# Altium integrated library Cypress PLD Delta39K.IntLib: 82 symbols (part 13 of 21)
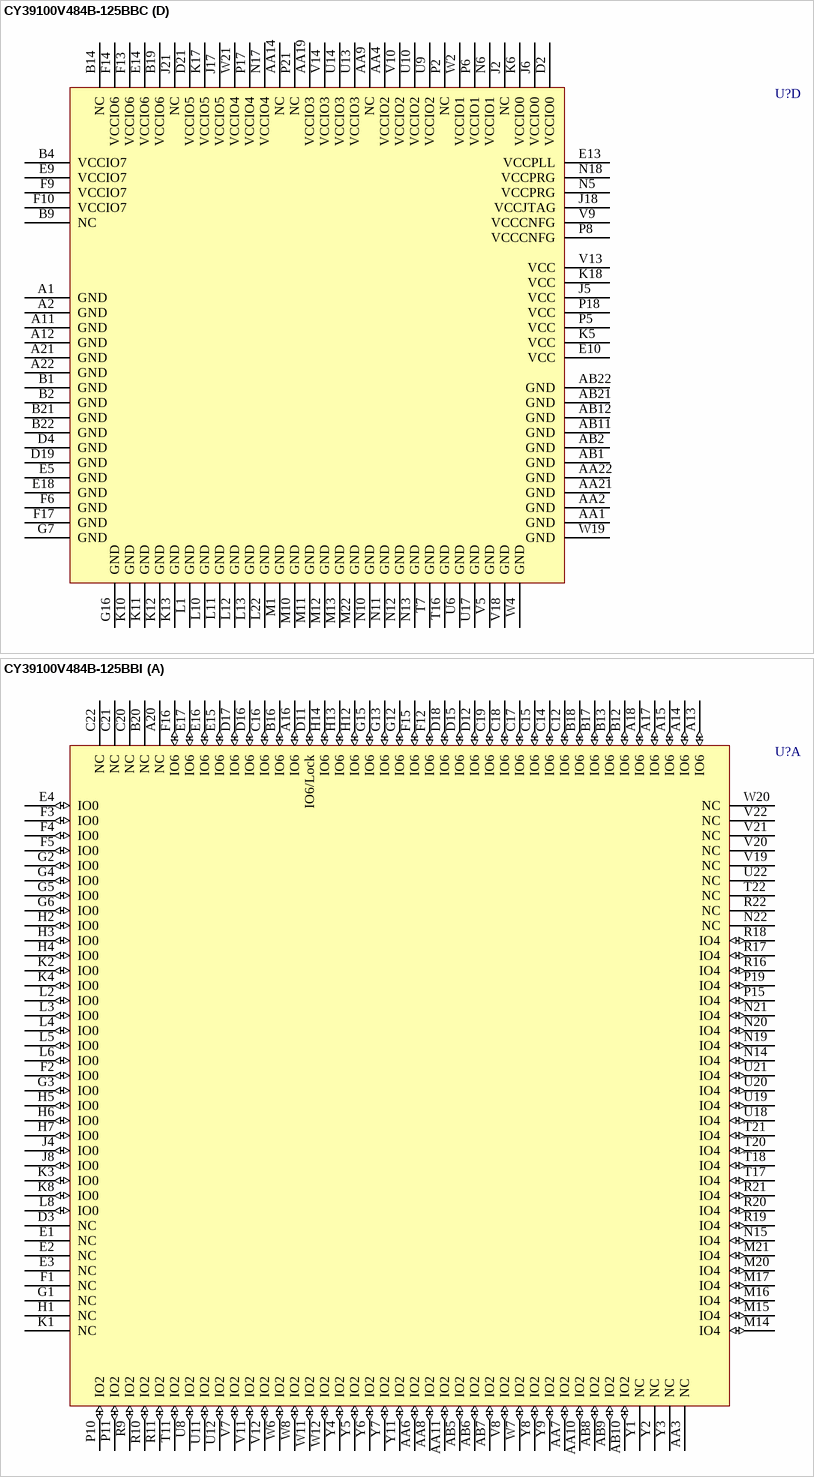
[diagram p90: symbols CY39100V484B-125BBC to CY39100V484B-125BBI]

## CY39100V484B-125BBC
designator U?
Delta39K ISR CPLD, 3.3V/2.5V, 100K Gates, 125 MHz, 484-Ball FBGA, Commercial Grade; Published: 6-Oct-2005; LatestRevisionDate: 13-Apr-2006; LatestRevisionNote: IPC-7351 Footprint Added.; DatasheetVersion: revI, Mar-2005; PackageVersion: Mar-2005; PackageReference: BB484; Publisher: Altium Limited; PackageDescription: 484-Ball Fine Pitch Ball Grid Array 1 mm Pitch; Code_IPC: BGA100P22X22-484; ComponentLink1Description: Manufacturer Link; ComponentLink1URL: http://www.cypress.com/; ComponentLink2Description: Datasheet; ComponentLink2URL: http://www.cypress.com/portal/server.pt/gateway/PTARGS_0_601270_1522_209_0_43/http%3B/sjapp20.mis.cypress.com%3B7001/publishedcontent/publish/design_resources/datasheets/contents/cy39030v_5.pdf
footprint BB484 (BGA, 484-Leads, Body 23x23mm, Pitch 1mm)
3D model CY39100V484-BB484 (484-Ball Fine Pitch Ball Grid Array 1 mm Pitch)
part A pins: A13 IO6 (io) "IO for Bank 6", A14 IO6 (io) "IO for Bank 6", A15 IO6 (io) "IO for Bank 6", A16 IO6 (io) "IO for Bank 6", A17 IO6 (io) "IO for Bank 6", A18 IO6 (io) "IO for Bank 6", A20 NC "No Connection", AA3 NC "No Connection", AA6 IO2 (io) "IO for Bank 2", AA7 IO2 (io) "IO for Bank 2", AA8 IO2 (io) "IO for Bank 2", AA10 IO2 (io) "IO for Bank 2", AA11 IO2 (io) "IO for Bank 2", AB5 IO2 (io) "IO for Bank 2", AB6 IO2 (io) "IO for Bank 2", AB7 IO2 (io) "IO for Bank 2", AB8 IO2 (io) "IO for Bank 2", AB9 IO2 (io) "IO for Bank 2", AB10 IO2 (io) "IO for Bank 2", B12 IO6 (io) "IO for Bank 6", B13 IO6 (io) "IO for Bank 6", B16 IO6 (io) "IO for Bank 6", B17 IO6 (io) "IO for Bank 6", B18 IO6 (io) "IO for Bank 6", B20 NC "No Connection", C12 IO6 (io) "IO for Bank 6", C14 IO6 (io) "IO for Bank 6", C15 IO6 (io) "IO for Bank 6", C16 IO6 (io) "IO for Bank 6", C17 IO6 (io) "IO for Bank 6", C18 IO6 (io) "IO for Bank 6", C19 IO6 (io) "IO for Bank 6", C20 NC "No Connection", C21 NC "No Connection", C22 NC "No Connection", D3 NC "No Connection", D11 IO6/Lock (io) "IO in Bank 6 or PLL lock output signal", D12 IO6 (io) "IO for Bank 6", D15 IO6 (io) "IO for Bank 6", D16 IO6 (io) "IO for Bank 6", D17 IO6 (io) "IO for Bank 6", D18 IO6 (io) "IO for Bank 6", E1 NC "No Connection", E2 NC "No Connection", E3 NC "No Connection", E4 IO0 (io) "IO for Bank 0", E15 IO6 (io) "IO for Bank 6", E16 IO6 (io) "IO for Bank 6", E17 IO6 (io) "IO for Bank 6", F1 NC "No Connection", F2 IO0 (io) "IO for Bank 0", F3 IO0 (io) "IO for Bank 0", F4 IO0 (io) "IO for Bank 0", F5 IO0 (io) "IO for Bank 0", F12 IO6 (io) "IO for Bank 6", F15 IO6 (io) "IO for Bank 6", F16 IO6 (io) "IO for Bank 6", G1 NC "No Connection", G2 IO0 (io) "IO for Bank 0", G3 IO0 (io) "IO for Bank 0", G4 IO0 (io) "IO for Bank 0", G5 IO0 (io) "IO for Bank 0", G6 IO0 (io) "IO for Bank 0", G12 IO6 (io) "IO for Bank 6", G13 IO6 (io) "IO for Bank 6", G15 IO6 (io) "IO for Bank 6", H1 NC "No Connection", H2 IO0 (io) "IO for Bank 0", H3 IO0 (io) "IO for Bank 0", H4 IO0 (io) "IO for Bank 0", H5 IO0 (io) "IO for Bank 0", H6 IO0 (io) "IO for Bank 0", H7 IO0 (io) "IO for Bank 0", H12 IO6 (io) "IO for Bank 6", H13 IO6 (io) "IO for Bank 6", H14 IO6 (io) "IO for Bank 6", J4 IO0 (io) "IO for Bank 0", J8 IO0 (io) "IO for Bank 0", K1 NC "No Connection", K2 IO0 (io) "IO for Bank 0", K3 IO0 (io) "IO for Bank 0", K4 IO0 (io) "IO for Bank 0", K8 IO0 (io) "IO for Bank 0", L2 IO0 (io) "IO for Bank 0", L3 IO0 (io) "IO for Bank 0", L4 IO0 (io) "IO for Bank 0", L5 IO0 (io) "IO for Bank 0", L6 IO0 (io) "IO for Bank 0", L8 IO0 (io) "IO for Bank 0", M14 IO4 (io) "IO for Bank 4", M15 IO4 (io) "IO for Bank 4", M16 IO4 (io) "IO for Bank 4", M17 IO4 (io) "IO for Bank 4", M20 IO4 (io) "IO for Bank 4", M21 IO4 (io) "IO for Bank 4", N14 IO4 (io) "IO for Bank 4", N15 IO4 (io) "IO for Bank 4", N19 IO4 (io) "IO for Bank 4", N20 IO4 (io) "IO for Bank 4", N21 IO4 (io) "IO for Bank 4", N22 NC "No Connection", P10 IO2 (io) "IO for Bank 2", P11 IO2 (io) "IO for Bank 2", P15 IO4 (io) "IO for Bank 4", P19 IO4 (io) "IO for Bank 4", R9 IO2 (io) "IO for Bank 2", R10 IO2 (io) "IO for Bank 2", R11 IO2 (io) "IO for Bank 2", R16 IO4 (io) "IO for Bank 4", R17 IO4 (io) "IO for Bank 4", R18 IO4 (io) "IO for Bank 4", R19 IO4 (io) "IO for Bank 4", R20 IO4 (io) "IO for Bank 4", R21 IO4 (io) "IO for Bank 4", R22 NC "No Connection", T11 IO2 (io) "IO for Bank 2", T17 IO4 (io) "IO for Bank 4", T18 IO4 (io) "IO for Bank 4", T20 IO4 (io) "IO for Bank 4", T21 IO4 (io) "IO for Bank 4", T22 NC "No Connection", U8 IO2 (io) "IO for Bank 2", U11 IO2 (io) "IO for Bank 2", U12 IO2 (io) "IO for Bank 2", U18 IO4 (io) "IO for Bank 4", U19 IO4 (io) "IO for Bank 4", U20 IO4 (io) "IO for Bank 4", U21 IO4 (io) "IO for Bank 4", U22 NC "No Connection", V7 IO2 (io) "IO for Bank 2", V8 IO2 (io) "IO for Bank 2", V11 IO2 (io) "IO for Bank 2", V12 IO2 (io) "IO for Bank 2", V19 NC "No Connection", V20 NC "No Connection", V21 NC "No Connection", V22 NC "No Connection", W6 IO2 (io) "IO for Bank 2", W7 IO2 (io) "IO for Bank 2", W8 IO2 (io) "IO for Bank 2", W11 IO2 (io) "IO for Bank 2", W12 IO2 (io) "IO for Bank 2", W20 NC "No Connection", Y1 NC "No Connection", Y2 NC "No Connection", Y3 NC "No Connection", Y4 IO2 (io) "IO for Bank 2", Y5 IO2 (io) "IO for Bank 2", Y6 IO2 (io) "IO for Bank 2", Y7 IO2 (io) "IO for Bank 2", Y8 IO2 (io) "IO for Bank 2", Y9 IO2 (io) "IO for Bank 2", Y11 IO2 (io) "IO for Bank 2"
part B pins: A5 IO7 (io) "IO for Bank 7", A6 IO7 (io) "IO for Bank 7", A7 IO7 (io) "IO for Bank 7", A8 IO7 (io) "IO for Bank 7", A9 IO7 (io) "IO for Bank 7", A10 IO7 (io) "IO for Bank 7", AA12 IO3 (io) "IO for Bank 3", AA13 IO3 (io) "IO for Bank 3", AA15 IO3 (io) "IO for Bank 3", AA16 IO3 (io) "IO for Bank 3", AA17 IO3 (io) "IO for Bank 3", AA20 NC "No Connection", AB13 IO3 (io) "IO for Bank 3", AB14 IO3 (io) "IO for Bank 3", AB15 IO3 (io) "IO for Bank 3", AB16 IO3 (io) "IO for Bank 3", AB17 IO3 (io) "IO for Bank 3", AB18 IO3 (io) "IO for Bank 3", AB20 NC "No Connection", B3 NC "No Connection", B5 IO7 (io) "IO for Bank 7", B6 IO7 (io) "IO for Bank 7", B7 IO7 (io) "IO for Bank 7", B10 IO7 (io) "IO for Bank 7", B11 IO7 (io) "IO for Bank 7", C1 NC "No Connection", C2 NC "No Connection", C3 NC "No Connection", C4 IO7 (io) "IO for Bank 7", C5 IO7 (io) "IO for Bank 7", C6 IO7 (io) "IO for Bank 7", C7 IO7 (io) "IO for Bank 7", C8 IO7 (io) "IO for Bank 7", C9 IO7 (io) "IO for Bank 7", C11 IO7 (io) "IO for Bank 7", D5 IO7 (io) "IO for Bank 7", D6 IO7 (io) "IO for Bank 7", D7 IO7 (io) "IO for Bank 7", D8 IO7 (io) "IO for Bank 7", D20 NC "No Connection", E6 IO7 (io) "IO for Bank 7", E7 IO7 (io) "IO for Bank 7", E8 IO7 (io) "IO for Bank 7", E20 NC "No Connection", E21 NC "No Connection", E22 NC "No Connection", F7 IO7 (io) "IO for Bank 7", F8 IO7 (io) "IO for Bank 7", F11 IO7 (io) "IO for Bank 7", F19 IO5 (io) "IO for Bank 5", F20 IO5 (io) "IO for Bank 5", F21 IO5 (io) "IO for Bank 5", F22 NC "No Connection", G8 IO7 (io) "IO for Bank 7", G10 IO7 (io) "IO for Bank 7", G11 IO7 (io) "IO for Bank 7", G18 IO5 (io) "IO for Bank 5", G19 IO5 (io) "IO for Bank 5", G20 IO5 (io) "IO for Bank 5", G21 IO5 (io) "IO for Bank 5", G22 NC "No Connection", H8 IO7 (io) "IO for Bank 7", H9 IO7 (io) "IO for Bank 7", H10 IO7 (io) "IO for Bank 7", H11 IO7 (io) "IO for Bank 7", H16 IO5 (io) "IO for Bank 5", H17 IO5 (io) "IO for Bank 5", H18 IO5 (io) "IO for Bank 5", H19 IO5 (io) "IO for Bank 5", H20 IO5 (io) "IO for Bank 5", H21 IO5 (io) "IO for Bank 5", H22 NC "No Connection", J9 IO7 (io) "IO for Bank 7", J14 IO5 (io) "IO for Bank 5", J15 IO5 (io) "IO for Bank 5", J19 IO5 (io) "IO for Bank 5", K15 IO5 (io) "IO for Bank 5", K19 IO5 (io) "IO for Bank 5", K20 IO5 (io) "IO for Bank 5", K21 IO5 (io) "IO for Bank 5", K22 NC "No Connection", L15 IO5 (io) "IO for Bank 5", L17 IO5 (io) "IO for Bank 5", L18 IO5 (io) "IO for Bank 5", L19 IO5 (io) "IO for Bank 5", L20 IO5 (io) "IO for Bank 5", L21 IO5 (io) "IO for Bank 5", M2 IO1 (io) "IO for Bank 1", M3 IO1 (io) "IO for Bank 1", M4 IO1 (io) "IO for Bank 1", M5 IO1 (io) "IO for Bank 1", M6 IO1 (io) "IO for Bank 1", M7 IO1 (io) "IO for Bank 1", M8 IO1 (io) "IO for Bank 1", M9 IO1 (io) "IO for Bank 1", M18 IO5 (io) "IO for Bank 5", M19 IO5 (io) "IO for Bank 5", N1 NC "No Connection", N2 IO1 (io) "IO for Bank 1", N3 IO1 (io) "IO for Bank 1", N4 IO1 (io) "IO for Bank 1", N8 IO1 (io) "IO for Bank 1", N9 IO1 (io) "IO for Bank 1", P4 IO1 (io) "IO for Bank 1", P12 IO3 (io) "IO for Bank 3", P13 IO3 (io) "IO for Bank 3", P14 IO3 (io) "IO for Bank 3", R1 NC "No Connection", R2 IO1 (io) "IO for Bank 1", R3 IO1 (io) "IO for Bank 1", R4 IO1 (io) "IO for Bank 1", R5 IO1 (io) "IO for Bank 1", R6 IO1 (io) "IO for Bank 1", R12 IO3 (io) "IO for Bank 3", R13 IO3 (io) "IO for Bank 3", R14 IO3 (io) "IO for Bank 3", R15 IO3 (io) "IO for Bank 3", T1 NC "No Connection", T2 IO1 (io) "IO for Bank 1", T3 IO1 (io) "IO for Bank 1", T5 IO1 (io) "IO for Bank 1", T6 IO1 (io) "IO for Bank 1", T12 IO3 (io) "IO for Bank 3", T15 IO3 (io) "IO for Bank 3", U1 NC "No Connection", U2 IO1 (io) "IO for Bank 1", U3 IO1 (io) "IO for Bank 1", U4 IO1 (io) "IO for Bank 1", U5 IO1 (io) "IO for Bank 1", U15 IO3 (io) "IO for Bank 3", U16 IO3 (io) "IO for Bank 3", V1 NC "No Connection", V2 NC "No Connection", V3 NC "No Connection", V4 NC "No Connection", V15 IO3 (io) "IO for Bank 3", V16 IO3 (io) "IO for Bank 3", V17 IO3 (io) "IO for Bank 3", W3 NC "No Connection", W15 IO3 (io) "IO for Bank 3", W16 IO3 (io) "IO for Bank 3", W17 IO3 (io) "IO for Bank 3", W18 IO3 (io) "IO for Bank 3", Y12 IO3 (io) "IO for Bank 3", Y14 IO3 (io) "IO for Bank 3", Y15 IO3 (io) "IO for Bank 3", Y16 IO3 (io) "IO for Bank 3", Y17 IO3 (io) "IO for Bank 3", Y18 IO3 (io) "IO for Bank 3", Y19 IO3 (io) "IO for Bank 3", Y20 NC "No Connection", Y21 NC "No Connection", Y22 NC "No Connection"
part C pins: A3 NC "No Connection", A4 NC "No Connection", A19 NC "No Connection", AA5 IO/VREF2 (io) "IO or Reference Voltage for Bank 2", AA18 IO/VREF3 (io) "IO or Reference Voltage for Bank 3", AB3 NC "No Connection", AB4 NC "No Connection", AB19 NC "No Connection", B8 IO/VREF7 (io) "IO or Reference Voltage for Bank 7", B15 IO/VREF6 (io) "IO or Reference Voltage for Bank 6", C10 IO/VREF7 (io) "IO or Reference Voltage for Bank 7", C13 IO/VREF6 (io) "IO or Reference Voltage for Bank 6", D1 NC "No Connection", D9 IO/VREF7 (io) "IO or Reference Voltage for Bank 7", D10 IO/VREF7 (io) "IO or Reference Voltage for Bank 7", D13 IO/VREF6 (io) "IO or Reference Voltage for Bank 6", D14 IO/VREF6 (io) "IO or Reference Voltage for Bank 6", D22 NC "No Connection", E11 IO/VREF7 (io) "IO or Reference Voltage for Bank 7", E12 IO/VREF6 (io) "IO or Reference Voltage for Bank 6", E19 TDO (out) "JTAG Test Data Out", F18 TDI (in) "JTAG Test Data In", G9 IO/VREF7 (io) "IO or Reference Voltage for Bank 7", G14 IO/VREF6 (io) "IO or Reference Voltage for Bank 6", G17 TCLK (in) "JTAG Test Clock", H15 TMS (in) "JTAG Test Mode Select", J1 NC "No Connection", J3 IO/VREF0 (io) "IO or Reference Voltage for Bank 0", J7 IO/VREF0 (io) "IO or Reference Voltage for Bank 0", J10 GCTL3 (in) "Global Control signal 3", J11 GCLK3 (in) "Global Clock signal 3", J12 GCTL2 (in) "Global Control signal 2", J13 GCLK2 (in) "Global Clock signal 2", J16 IO/VREF5 (io) "IO or Reference Voltage for Bank 5", J20 IO/VREF5 (io) "IO or Reference Voltage for Bank 5", J22 NC "No Connection", K7 IO/VREF0 (io) "IO or Reference Voltage for Bank 0", K9 GCTL0 (in) "Global Control signal 0", K14 GCTL1 (in) "Global Control signal 1", K16 IO/VREF5 (io) "IO or Reference Voltage for Bank 5", L7 IO/VREF0 (io) "IO or Reference Voltage for Bank 0", L9 GCLK0 (in) "Global Clock signal 0", L14 GCLK1 (in) "Global Clock signal 1", L16 IO/VREF5 (io) "IO or Reference Voltage for Bank 5", N7 IO/VREF1 (io) "IO or Reference Voltage for Bank 1", N16 IO/VREF4 (io) "IO or Reference Voltage for Bank 4", P1 NC "No Connection", P3 IO/VREF1 (io) "IO or Reference Voltage for Bank 1", P7 IO/VREF1 (io) "IO or Reference Voltage for Bank 1", P9 Config_Done (out) "Flag indicating that configuration is complete", P16 IO/VREF4 (io) "IO or Reference Voltage for Bank 4", P20 IO/VREF4 (io) "IO or Reference Voltage for Bank 4", P22 NC "No Connection", R7 Data (in) "Pin to receive configuration data from the external boot PROM", R8 Reconfig (in) "Pin to start configuration of Delta39K", T4 IO/VREF1 (io) "IO or Reference Voltage for Bank 1", T8 MSEL (in) "Mode Select Pin", T9 IO/VREF2 (io) "IO or Reference Voltage for Bank 2", T10 IO/VREF2 (io) "IO or Reference Voltage for Bank 2", T13 IO/VREF3 (io) "IO or Reference Voltage for Bank 3", T14 IO/VREF3 (io) "IO or Reference Voltage for Bank 3", T19 IO/VREF4 (io) "IO or Reference Voltage for Bank 4", U7 ~{CCE} (out) "Chip select for the external boot PROM (active low)", V6 CCLK (out) "Configuration Clock for serial interface with the external boot PROM", W1 NC "No Connection", W5 Reset (out) "Reset signal to interface with the external boot PROM", W9 IO/VREF2 (io) "IO or Reference Voltage for Bank 2", W10 IO/VREF2 (io) "IO or Reference Voltage for Bank 2", W13 IO/VREF3 (io) "IO or Reference Voltage for Bank 3", W14 IO/VREF3 (io) "IO or Reference Voltage for Bank 3", W22 NC "No Connection", Y10 IO/VREF2 (io) "IO or Reference Voltage for Bank 2", Y13 IO/VREF3 (io) "IO or Reference Voltage for Bank 3"
part D pins: A1 GND (power) "Ground", A2 GND (power) "Ground", A11 GND (power) "Ground", A12 GND (power) "Ground", A21 GND (power) "Ground", A22 GND (power) "Ground", AA1 GND (power) "Ground", AA2 GND (power) "Ground", AA4 VCCIO2 (power) "VCC for I/O bank 2", AA9 NC "No Connection", AA14 NC "No Connection", AA19 VCCIO3 (power) "VCC for I/O bank 3", AA21 GND (power) "Ground", AA22 GND (power) "Ground", AB1 GND (power) "Ground", AB2 GND (power) "Ground", AB11 GND (power) "Ground", AB12 GND (power) "Ground", AB21 GND (power) "Ground", AB22 GND (power) "Ground", B1 GND (power) "Ground", B2 GND (power) "Ground", B4 VCCIO7 (power) "VCC for I/O bank 7", B9 NC "No Connection", B14 NC "No Connection", B19 VCCIO6 (power) "VCC for I/O bank 6", B21 GND (power) "Ground", B22 GND (power) "Ground", D2 VCCIO0 (power) "VCC for I/O bank 0", D4 GND (power) "Ground", D19 GND (power) "Ground", D21 VCCIO5 (power) "VCC for I/O bank 5", E5 GND (power) "Ground", E9 VCCIO7 (power) "VCC for I/O bank 7", E10 VCC (power) "Operating Voltage", E13 VCCPLL (power) "VCC for PLL", E14 VCCIO6 (power) "VCC for I/O bank 6", E18 GND (power) "Ground", F6 GND (power) "Ground", F9 VCCIO7 (power) "VCC for I/O bank 7", F10 VCCIO7 (power) "VCC for I/O bank 7", F13 VCCIO6 (power) "VCC for I/O bank 6", F14 VCCIO6 (power) "VCC for I/O bank 6", F17 GND (power) "Ground", G7 GND (power) "Ground", G16 GND (power) "Ground", J2 NC "No Connection", J5 VCC (power) "Operating Voltage", J6 VCCIO0 (power) "VCC for I/O bank 0", J17 VCCIO5 (power) "VCC for I/O bank 5", J18 VCCJTAG (power) "VCC for JTAG pins", J21 NC "No Connection", K5 VCC (power) "Operating Voltage", K6 VCCIO0 (power) "VCC for I/O bank 0", K10 GND (power) "Ground", K11 GND (power) "Ground", K12 GND (power) "Ground", K13 GND (power) "Ground", K17 VCCIO5 (power) "VCC for I/O bank 5", K18 VCC (power) "Operating Voltage", L1 GND (power) "Ground", L10 GND (power) "Ground", L11 GND (power) "Ground", L12 GND (power) "Ground", L13 GND (power) "Ground", L22 GND (power) "Ground", M1 GND (power) "Ground", M10 GND (power) "Ground", M11 GND (power) "Ground", M12 GND (power) "Ground", M13 GND (power) "Ground", M22 GND (power) "Ground", N5 VCCPRG (power) "VCC for programming Self-Boot solution embedded boot PROM", N6 VCCIO1 (power) "VCC for I/O bank 1", N10 GND (power) "Ground", N11 GND (power) "Ground", N12 GND (power) "Ground", N13 GND (power) "Ground", N17 VCCIO4 (power) "VCC for I/O bank 4", N18 VCCPRG (power) "VCC for programming Self-Boot solution embedded boot PROM", P2 NC "No Connection", P5 VCC (power) "Operating Voltage", P6 VCCIO1 (power) "VCC for I/O bank 1", P8 VCCCNFG (power) "VCC for Configuration port", P17 VCCIO4 (power) "VCC for I/O bank 4", P18 VCC (power) "Operating Voltage", P21 NC "No Connection", T7 GND (power) "Ground", T16 GND (power) "Ground", U6 GND (power) "Ground", U9 VCCIO2 (power) "VCC for I/O bank 2", U10 VCCIO2 (power) "VCC for I/O bank 2", U13 VCCIO3 (power) "VCC for I/O bank 3", U14 VCCIO3 (power) "VCC for I/O bank 3", U17 GND (power) "Ground", V5 GND (power) "Ground", V9 VCCCNFG (power) "VCC for Configuration port", V10 VCCIO2 (power) "VCC for I/O bank 2", V13 VCC (power) "Operating Voltage", V14 VCCIO3 (power) "VCC for I/O bank 3", V18 GND (power) "Ground", W2 VCCIO1 (power) "VCC for I/O bank 1", W4 GND (power) "Ground", W19 GND (power) "Ground", W21 VCCIO4 (power) "VCC for I/O bank 4"

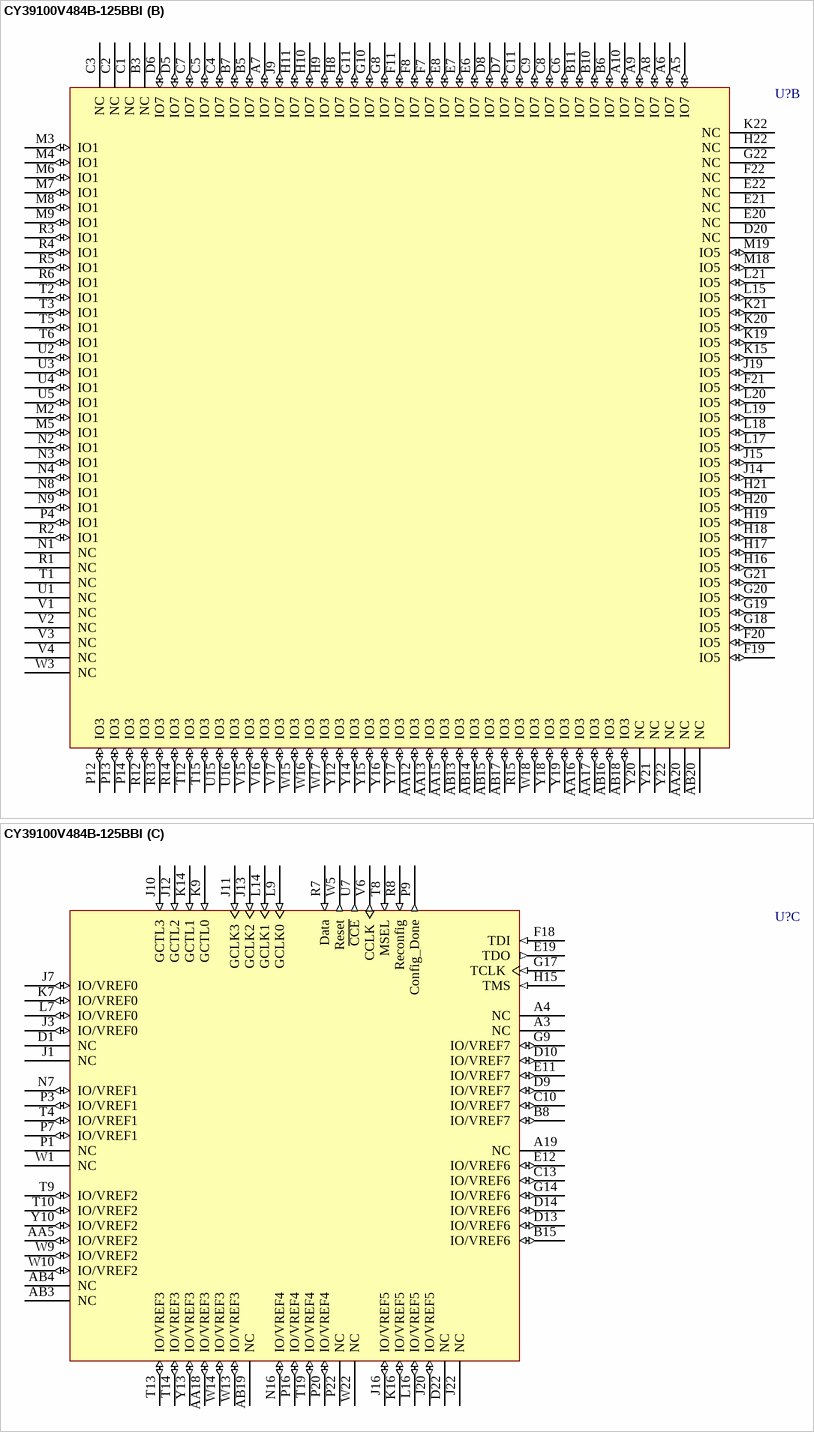
[diagram p42: symbol CY39100V484B-125BBI]

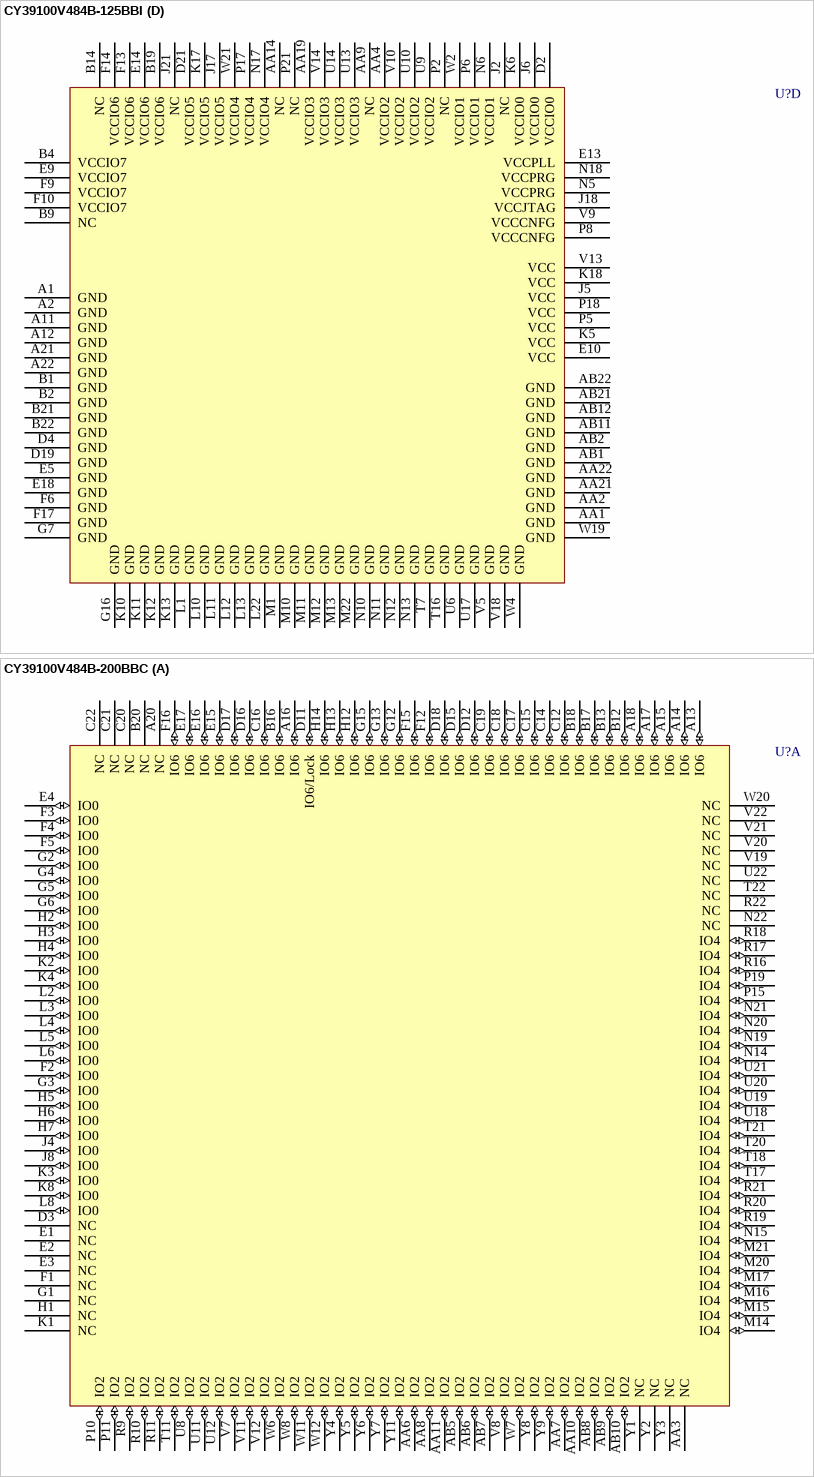
[diagram p43: symbols CY39100V484B-125BBI to CY39100V484B-200BBC]

## CY39100V484B-125BBI
designator U?
Delta39K ISR CPLD, 3.3V/2.5V, 100K Gates, 125 MHz, 484-Ball FBGA, Industrial Grade; Published: 6-Oct-2005; LatestRevisionDate: 13-Apr-2006; LatestRevisionNote: IPC-7351 Footprint Added.; DatasheetVersion: revI, Mar-2005; PackageVersion: Mar-2005; PackageReference: BB484; Publisher: Altium Limited; PackageDescription: 484-Ball Fine Pitch Ball Grid Array 1 mm Pitch; Code_IPC: BGA100P22X22-484; ComponentLink1Description: Manufacturer Link; ComponentLink1URL: http://www.cypress.com/; ComponentLink2Description: Datasheet; ComponentLink2URL: http://www.cypress.com/portal/server.pt/gateway/PTARGS_0_601270_1522_209_0_43/http%3B/sjapp20.mis.cypress.com%3B7001/publishedcontent/publish/design_resources/datasheets/contents/cy39030v_5.pdf
footprint BB484 (BGA, 484-Leads, Body 23x23mm, Pitch 1mm)
3D model CY39100V484-BB484 (484-Ball Fine Pitch Ball Grid Array 1 mm Pitch)
part A pins: A13 IO6 (io) "IO for Bank 6", A14 IO6 (io) "IO for Bank 6", A15 IO6 (io) "IO for Bank 6", A16 IO6 (io) "IO for Bank 6", A17 IO6 (io) "IO for Bank 6", A18 IO6 (io) "IO for Bank 6", A20 NC "No Connection", AA3 NC "No Connection", AA6 IO2 (io) "IO for Bank 2", AA7 IO2 (io) "IO for Bank 2", AA8 IO2 (io) "IO for Bank 2", AA10 IO2 (io) "IO for Bank 2", AA11 IO2 (io) "IO for Bank 2", AB5 IO2 (io) "IO for Bank 2", AB6 IO2 (io) "IO for Bank 2", AB7 IO2 (io) "IO for Bank 2", AB8 IO2 (io) "IO for Bank 2", AB9 IO2 (io) "IO for Bank 2", AB10 IO2 (io) "IO for Bank 2", B12 IO6 (io) "IO for Bank 6", B13 IO6 (io) "IO for Bank 6", B16 IO6 (io) "IO for Bank 6", B17 IO6 (io) "IO for Bank 6", B18 IO6 (io) "IO for Bank 6", B20 NC "No Connection", C12 IO6 (io) "IO for Bank 6", C14 IO6 (io) "IO for Bank 6", C15 IO6 (io) "IO for Bank 6", C16 IO6 (io) "IO for Bank 6", C17 IO6 (io) "IO for Bank 6", C18 IO6 (io) "IO for Bank 6", C19 IO6 (io) "IO for Bank 6", C20 NC "No Connection", C21 NC "No Connection", C22 NC "No Connection", D3 NC "No Connection", D11 IO6/Lock (io) "IO in Bank 6 or PLL lock output signal", D12 IO6 (io) "IO for Bank 6", D15 IO6 (io) "IO for Bank 6", D16 IO6 (io) "IO for Bank 6", D17 IO6 (io) "IO for Bank 6", D18 IO6 (io) "IO for Bank 6", E1 NC "No Connection", E2 NC "No Connection", E3 NC "No Connection", E4 IO0 (io) "IO for Bank 0", E15 IO6 (io) "IO for Bank 6", E16 IO6 (io) "IO for Bank 6", E17 IO6 (io) "IO for Bank 6", F1 NC "No Connection", F2 IO0 (io) "IO for Bank 0", F3 IO0 (io) "IO for Bank 0", F4 IO0 (io) "IO for Bank 0", F5 IO0 (io) "IO for Bank 0", F12 IO6 (io) "IO for Bank 6", F15 IO6 (io) "IO for Bank 6", F16 IO6 (io) "IO for Bank 6", G1 NC "No Connection", G2 IO0 (io) "IO for Bank 0", G3 IO0 (io) "IO for Bank 0", G4 IO0 (io) "IO for Bank 0", G5 IO0 (io) "IO for Bank 0", G6 IO0 (io) "IO for Bank 0", G12 IO6 (io) "IO for Bank 6", G13 IO6 (io) "IO for Bank 6", G15 IO6 (io) "IO for Bank 6", H1 NC "No Connection", H2 IO0 (io) "IO for Bank 0", H3 IO0 (io) "IO for Bank 0", H4 IO0 (io) "IO for Bank 0", H5 IO0 (io) "IO for Bank 0", H6 IO0 (io) "IO for Bank 0", H7 IO0 (io) "IO for Bank 0", H12 IO6 (io) "IO for Bank 6", H13 IO6 (io) "IO for Bank 6", H14 IO6 (io) "IO for Bank 6", J4 IO0 (io) "IO for Bank 0", J8 IO0 (io) "IO for Bank 0", K1 NC "No Connection", K2 IO0 (io) "IO for Bank 0", K3 IO0 (io) "IO for Bank 0", K4 IO0 (io) "IO for Bank 0", K8 IO0 (io) "IO for Bank 0", L2 IO0 (io) "IO for Bank 0", L3 IO0 (io) "IO for Bank 0", L4 IO0 (io) "IO for Bank 0", L5 IO0 (io) "IO for Bank 0", L6 IO0 (io) "IO for Bank 0", L8 IO0 (io) "IO for Bank 0", M14 IO4 (io) "IO for Bank 4", M15 IO4 (io) "IO for Bank 4", M16 IO4 (io) "IO for Bank 4", M17 IO4 (io) "IO for Bank 4", M20 IO4 (io) "IO for Bank 4", M21 IO4 (io) "IO for Bank 4", N14 IO4 (io) "IO for Bank 4", N15 IO4 (io) "IO for Bank 4", N19 IO4 (io) "IO for Bank 4", N20 IO4 (io) "IO for Bank 4", N21 IO4 (io) "IO for Bank 4", N22 NC "No Connection", P10 IO2 (io) "IO for Bank 2", P11 IO2 (io) "IO for Bank 2", P15 IO4 (io) "IO for Bank 4", P19 IO4 (io) "IO for Bank 4", R9 IO2 (io) "IO for Bank 2", R10 IO2 (io) "IO for Bank 2", R11 IO2 (io) "IO for Bank 2", R16 IO4 (io) "IO for Bank 4", R17 IO4 (io) "IO for Bank 4", R18 IO4 (io) "IO for Bank 4", R19 IO4 (io) "IO for Bank 4", R20 IO4 (io) "IO for Bank 4", R21 IO4 (io) "IO for Bank 4", R22 NC "No Connection", T11 IO2 (io) "IO for Bank 2", T17 IO4 (io) "IO for Bank 4", T18 IO4 (io) "IO for Bank 4", T20 IO4 (io) "IO for Bank 4", T21 IO4 (io) "IO for Bank 4", T22 NC "No Connection", U8 IO2 (io) "IO for Bank 2", U11 IO2 (io) "IO for Bank 2", U12 IO2 (io) "IO for Bank 2", U18 IO4 (io) "IO for Bank 4", U19 IO4 (io) "IO for Bank 4", U20 IO4 (io) "IO for Bank 4", U21 IO4 (io) "IO for Bank 4", U22 NC "No Connection", V7 IO2 (io) "IO for Bank 2", V8 IO2 (io) "IO for Bank 2", V11 IO2 (io) "IO for Bank 2", V12 IO2 (io) "IO for Bank 2", V19 NC "No Connection", V20 NC "No Connection", V21 NC "No Connection", V22 NC "No Connection", W6 IO2 (io) "IO for Bank 2", W7 IO2 (io) "IO for Bank 2", W8 IO2 (io) "IO for Bank 2", W11 IO2 (io) "IO for Bank 2", W12 IO2 (io) "IO for Bank 2", W20 NC "No Connection", Y1 NC "No Connection", Y2 NC "No Connection", Y3 NC "No Connection", Y4 IO2 (io) "IO for Bank 2", Y5 IO2 (io) "IO for Bank 2", Y6 IO2 (io) "IO for Bank 2", Y7 IO2 (io) "IO for Bank 2", Y8 IO2 (io) "IO for Bank 2", Y9 IO2 (io) "IO for Bank 2", Y11 IO2 (io) "IO for Bank 2"
part B pins: A5 IO7 (io) "IO for Bank 7", A6 IO7 (io) "IO for Bank 7", A7 IO7 (io) "IO for Bank 7", A8 IO7 (io) "IO for Bank 7", A9 IO7 (io) "IO for Bank 7", A10 IO7 (io) "IO for Bank 7", AA12 IO3 (io) "IO for Bank 3", AA13 IO3 (io) "IO for Bank 3", AA15 IO3 (io) "IO for Bank 3", AA16 IO3 (io) "IO for Bank 3", AA17 IO3 (io) "IO for Bank 3", AA20 NC "No Connection", AB13 IO3 (io) "IO for Bank 3", AB14 IO3 (io) "IO for Bank 3", AB15 IO3 (io) "IO for Bank 3", AB16 IO3 (io) "IO for Bank 3", AB17 IO3 (io) "IO for Bank 3", AB18 IO3 (io) "IO for Bank 3", AB20 NC "No Connection", B3 NC "No Connection", B5 IO7 (io) "IO for Bank 7", B6 IO7 (io) "IO for Bank 7", B7 IO7 (io) "IO for Bank 7", B10 IO7 (io) "IO for Bank 7", B11 IO7 (io) "IO for Bank 7", C1 NC "No Connection", C2 NC "No Connection", C3 NC "No Connection", C4 IO7 (io) "IO for Bank 7", C5 IO7 (io) "IO for Bank 7", C6 IO7 (io) "IO for Bank 7", C7 IO7 (io) "IO for Bank 7", C8 IO7 (io) "IO for Bank 7", C9 IO7 (io) "IO for Bank 7", C11 IO7 (io) "IO for Bank 7", D5 IO7 (io) "IO for Bank 7", D6 IO7 (io) "IO for Bank 7", D7 IO7 (io) "IO for Bank 7", D8 IO7 (io) "IO for Bank 7", D20 NC "No Connection", E6 IO7 (io) "IO for Bank 7", E7 IO7 (io) "IO for Bank 7", E8 IO7 (io) "IO for Bank 7", E20 NC "No Connection", E21 NC "No Connection", E22 NC "No Connection", F7 IO7 (io) "IO for Bank 7", F8 IO7 (io) "IO for Bank 7", F11 IO7 (io) "IO for Bank 7", F19 IO5 (io) "IO for Bank 5", F20 IO5 (io) "IO for Bank 5", F21 IO5 (io) "IO for Bank 5", F22 NC "No Connection", G8 IO7 (io) "IO for Bank 7", G10 IO7 (io) "IO for Bank 7", G11 IO7 (io) "IO for Bank 7", G18 IO5 (io) "IO for Bank 5", G19 IO5 (io) "IO for Bank 5", G20 IO5 (io) "IO for Bank 5", G21 IO5 (io) "IO for Bank 5", G22 NC "No Connection", H8 IO7 (io) "IO for Bank 7", H9 IO7 (io) "IO for Bank 7", H10 IO7 (io) "IO for Bank 7", H11 IO7 (io) "IO for Bank 7", H16 IO5 (io) "IO for Bank 5", H17 IO5 (io) "IO for Bank 5", H18 IO5 (io) "IO for Bank 5", H19 IO5 (io) "IO for Bank 5", H20 IO5 (io) "IO for Bank 5", H21 IO5 (io) "IO for Bank 5", H22 NC "No Connection", J9 IO7 (io) "IO for Bank 7", J14 IO5 (io) "IO for Bank 5", J15 IO5 (io) "IO for Bank 5", J19 IO5 (io) "IO for Bank 5", K15 IO5 (io) "IO for Bank 5", K19 IO5 (io) "IO for Bank 5", K20 IO5 (io) "IO for Bank 5", K21 IO5 (io) "IO for Bank 5", K22 NC "No Connection", L15 IO5 (io) "IO for Bank 5", L17 IO5 (io) "IO for Bank 5", L18 IO5 (io) "IO for Bank 5", L19 IO5 (io) "IO for Bank 5", L20 IO5 (io) "IO for Bank 5", L21 IO5 (io) "IO for Bank 5", M2 IO1 (io) "IO for Bank 1", M3 IO1 (io) "IO for Bank 1", M4 IO1 (io) "IO for Bank 1", M5 IO1 (io) "IO for Bank 1", M6 IO1 (io) "IO for Bank 1", M7 IO1 (io) "IO for Bank 1", M8 IO1 (io) "IO for Bank 1", M9 IO1 (io) "IO for Bank 1", M18 IO5 (io) "IO for Bank 5", M19 IO5 (io) "IO for Bank 5", N1 NC "No Connection", N2 IO1 (io) "IO for Bank 1", N3 IO1 (io) "IO for Bank 1", N4 IO1 (io) "IO for Bank 1", N8 IO1 (io) "IO for Bank 1", N9 IO1 (io) "IO for Bank 1", P4 IO1 (io) "IO for Bank 1", P12 IO3 (io) "IO for Bank 3", P13 IO3 (io) "IO for Bank 3", P14 IO3 (io) "IO for Bank 3", R1 NC "No Connection", R2 IO1 (io) "IO for Bank 1", R3 IO1 (io) "IO for Bank 1", R4 IO1 (io) "IO for Bank 1", R5 IO1 (io) "IO for Bank 1", R6 IO1 (io) "IO for Bank 1", R12 IO3 (io) "IO for Bank 3", R13 IO3 (io) "IO for Bank 3", R14 IO3 (io) "IO for Bank 3", R15 IO3 (io) "IO for Bank 3", T1 NC "No Connection", T2 IO1 (io) "IO for Bank 1", T3 IO1 (io) "IO for Bank 1", T5 IO1 (io) "IO for Bank 1", T6 IO1 (io) "IO for Bank 1", T12 IO3 (io) "IO for Bank 3", T15 IO3 (io) "IO for Bank 3", U1 NC "No Connection", U2 IO1 (io) "IO for Bank 1", U3 IO1 (io) "IO for Bank 1", U4 IO1 (io) "IO for Bank 1", U5 IO1 (io) "IO for Bank 1", U15 IO3 (io) "IO for Bank 3", U16 IO3 (io) "IO for Bank 3", V1 NC "No Connection", V2 NC "No Connection", V3 NC "No Connection", V4 NC "No Connection", V15 IO3 (io) "IO for Bank 3", V16 IO3 (io) "IO for Bank 3", V17 IO3 (io) "IO for Bank 3", W3 NC "No Connection", W15 IO3 (io) "IO for Bank 3", W16 IO3 (io) "IO for Bank 3", W17 IO3 (io) "IO for Bank 3", W18 IO3 (io) "IO for Bank 3", Y12 IO3 (io) "IO for Bank 3", Y14 IO3 (io) "IO for Bank 3", Y15 IO3 (io) "IO for Bank 3", Y16 IO3 (io) "IO for Bank 3", Y17 IO3 (io) "IO for Bank 3", Y18 IO3 (io) "IO for Bank 3", Y19 IO3 (io) "IO for Bank 3", Y20 NC "No Connection", Y21 NC "No Connection", Y22 NC "No Connection"
part C pins: A3 NC "No Connection", A4 NC "No Connection", A19 NC "No Connection", AA5 IO/VREF2 (io) "IO or Reference Voltage for Bank 2", AA18 IO/VREF3 (io) "IO or Reference Voltage for Bank 3", AB3 NC "No Connection", AB4 NC "No Connection", AB19 NC "No Connection", B8 IO/VREF7 (io) "IO or Reference Voltage for Bank 7", B15 IO/VREF6 (io) "IO or Reference Voltage for Bank 6", C10 IO/VREF7 (io) "IO or Reference Voltage for Bank 7", C13 IO/VREF6 (io) "IO or Reference Voltage for Bank 6", D1 NC "No Connection", D9 IO/VREF7 (io) "IO or Reference Voltage for Bank 7", D10 IO/VREF7 (io) "IO or Reference Voltage for Bank 7", D13 IO/VREF6 (io) "IO or Reference Voltage for Bank 6", D14 IO/VREF6 (io) "IO or Reference Voltage for Bank 6", D22 NC "No Connection", E11 IO/VREF7 (io) "IO or Reference Voltage for Bank 7", E12 IO/VREF6 (io) "IO or Reference Voltage for Bank 6", E19 TDO (out) "JTAG Test Data Out", F18 TDI (in) "JTAG Test Data In", G9 IO/VREF7 (io) "IO or Reference Voltage for Bank 7", G14 IO/VREF6 (io) "IO or Reference Voltage for Bank 6", G17 TCLK (in) "JTAG Test Clock", H15 TMS (in) "JTAG Test Mode Select", J1 NC "No Connection", J3 IO/VREF0 (io) "IO or Reference Voltage for Bank 0", J7 IO/VREF0 (io) "IO or Reference Voltage for Bank 0", J10 GCTL3 (in) "Global Control signal 3", J11 GCLK3 (in) "Global Clock signal 3", J12 GCTL2 (in) "Global Control signal 2", J13 GCLK2 (in) "Global Clock signal 2", J16 IO/VREF5 (io) "IO or Reference Voltage for Bank 5", J20 IO/VREF5 (io) "IO or Reference Voltage for Bank 5", J22 NC "No Connection", K7 IO/VREF0 (io) "IO or Reference Voltage for Bank 0", K9 GCTL0 (in) "Global Control signal 0", K14 GCTL1 (in) "Global Control signal 1", K16 IO/VREF5 (io) "IO or Reference Voltage for Bank 5", L7 IO/VREF0 (io) "IO or Reference Voltage for Bank 0", L9 GCLK0 (in) "Global Clock signal 0", L14 GCLK1 (in) "Global Clock signal 1", L16 IO/VREF5 (io) "IO or Reference Voltage for Bank 5", N7 IO/VREF1 (io) "IO or Reference Voltage for Bank 1", N16 IO/VREF4 (io) "IO or Reference Voltage for Bank 4", P1 NC "No Connection", P3 IO/VREF1 (io) "IO or Reference Voltage for Bank 1", P7 IO/VREF1 (io) "IO or Reference Voltage for Bank 1", P9 Config_Done (out) "Flag indicating that configuration is complete", P16 IO/VREF4 (io) "IO or Reference Voltage for Bank 4", P20 IO/VREF4 (io) "IO or Reference Voltage for Bank 4", P22 NC "No Connection", R7 Data (in) "Pin to receive configuration data from the external boot PROM", R8 Reconfig (in) "Pin to start configuration of Delta39K", T4 IO/VREF1 (io) "IO or Reference Voltage for Bank 1", T8 MSEL (in) "Mode Select Pin", T9 IO/VREF2 (io) "IO or Reference Voltage for Bank 2", T10 IO/VREF2 (io) "IO or Reference Voltage for Bank 2", T13 IO/VREF3 (io) "IO or Reference Voltage for Bank 3", T14 IO/VREF3 (io) "IO or Reference Voltage for Bank 3", T19 IO/VREF4 (io) "IO or Reference Voltage for Bank 4", U7 ~{CCE} (out) "Chip select for the external boot PROM (active low)", V6 CCLK (out) "Configuration Clock for serial interface with the external boot PROM", W1 NC "No Connection", W5 Reset (out) "Reset signal to interface with the external boot PROM", W9 IO/VREF2 (io) "IO or Reference Voltage for Bank 2", W10 IO/VREF2 (io) "IO or Reference Voltage for Bank 2", W13 IO/VREF3 (io) "IO or Reference Voltage for Bank 3", W14 IO/VREF3 (io) "IO or Reference Voltage for Bank 3", W22 NC "No Connection", Y10 IO/VREF2 (io) "IO or Reference Voltage for Bank 2", Y13 IO/VREF3 (io) "IO or Reference Voltage for Bank 3"
part D pins: A1 GND (power) "Ground", A2 GND (power) "Ground", A11 GND (power) "Ground", A12 GND (power) "Ground", A21 GND (power) "Ground", A22 GND (power) "Ground", AA1 GND (power) "Ground", AA2 GND (power) "Ground", AA4 VCCIO2 (power) "VCC for I/O bank 2", AA9 NC "No Connection", AA14 NC "No Connection", AA19 VCCIO3 (power) "VCC for I/O bank 3", AA21 GND (power) "Ground", AA22 GND (power) "Ground", AB1 GND (power) "Ground", AB2 GND (power) "Ground", AB11 GND (power) "Ground", AB12 GND (power) "Ground", AB21 GND (power) "Ground", AB22 GND (power) "Ground", B1 GND (power) "Ground", B2 GND (power) "Ground", B4 VCCIO7 (power) "VCC for I/O bank 7", B9 NC "No Connection", B14 NC "No Connection", B19 VCCIO6 (power) "VCC for I/O bank 6", B21 GND (power) "Ground", B22 GND (power) "Ground", D2 VCCIO0 (power) "VCC for I/O bank 0", D4 GND (power) "Ground", D19 GND (power) "Ground", D21 VCCIO5 (power) "VCC for I/O bank 5", E5 GND (power) "Ground", E9 VCCIO7 (power) "VCC for I/O bank 7", E10 VCC (power) "Operating Voltage", E13 VCCPLL (power) "VCC for PLL", E14 VCCIO6 (power) "VCC for I/O bank 6", E18 GND (power) "Ground", F6 GND (power) "Ground", F9 VCCIO7 (power) "VCC for I/O bank 7", F10 VCCIO7 (power) "VCC for I/O bank 7", F13 VCCIO6 (power) "VCC for I/O bank 6", F14 VCCIO6 (power) "VCC for I/O bank 6", F17 GND (power) "Ground", G7 GND (power) "Ground", G16 GND (power) "Ground", J2 NC "No Connection", J5 VCC (power) "Operating Voltage", J6 VCCIO0 (power) "VCC for I/O bank 0", J17 VCCIO5 (power) "VCC for I/O bank 5", J18 VCCJTAG (power) "VCC for JTAG pins", J21 NC "No Connection", K5 VCC (power) "Operating Voltage", K6 VCCIO0 (power) "VCC for I/O bank 0", K10 GND (power) "Ground", K11 GND (power) "Ground", K12 GND (power) "Ground", K13 GND (power) "Ground", K17 VCCIO5 (power) "VCC for I/O bank 5", K18 VCC (power) "Operating Voltage", L1 GND (power) "Ground", L10 GND (power) "Ground", L11 GND (power) "Ground", L12 GND (power) "Ground", L13 GND (power) "Ground", L22 GND (power) "Ground", M1 GND (power) "Ground", M10 GND (power) "Ground", M11 GND (power) "Ground", M12 GND (power) "Ground", M13 GND (power) "Ground", M22 GND (power) "Ground", N5 VCCPRG (power) "VCC for programming Self-Boot solution embedded boot PROM", N6 VCCIO1 (power) "VCC for I/O bank 1", N10 GND (power) "Ground", N11 GND (power) "Ground", N12 GND (power) "Ground", N13 GND (power) "Ground", N17 VCCIO4 (power) "VCC for I/O bank 4", N18 VCCPRG (power) "VCC for programming Self-Boot solution embedded boot PROM", P2 NC "No Connection", P5 VCC (power) "Operating Voltage", P6 VCCIO1 (power) "VCC for I/O bank 1", P8 VCCCNFG (power) "VCC for Configuration port", P17 VCCIO4 (power) "VCC for I/O bank 4", P18 VCC (power) "Operating Voltage", P21 NC "No Connection", T7 GND (power) "Ground", T16 GND (power) "Ground", U6 GND (power) "Ground", U9 VCCIO2 (power) "VCC for I/O bank 2", U10 VCCIO2 (power) "VCC for I/O bank 2", U13 VCCIO3 (power) "VCC for I/O bank 3", U14 VCCIO3 (power) "VCC for I/O bank 3", U17 GND (power) "Ground", V5 GND (power) "Ground", V9 VCCCNFG (power) "VCC for Configuration port", V10 VCCIO2 (power) "VCC for I/O bank 2", V13 VCC (power) "Operating Voltage", V14 VCCIO3 (power) "VCC for I/O bank 3", V18 GND (power) "Ground", W2 VCCIO1 (power) "VCC for I/O bank 1", W4 GND (power) "Ground", W19 GND (power) "Ground", W21 VCCIO4 (power) "VCC for I/O bank 4"

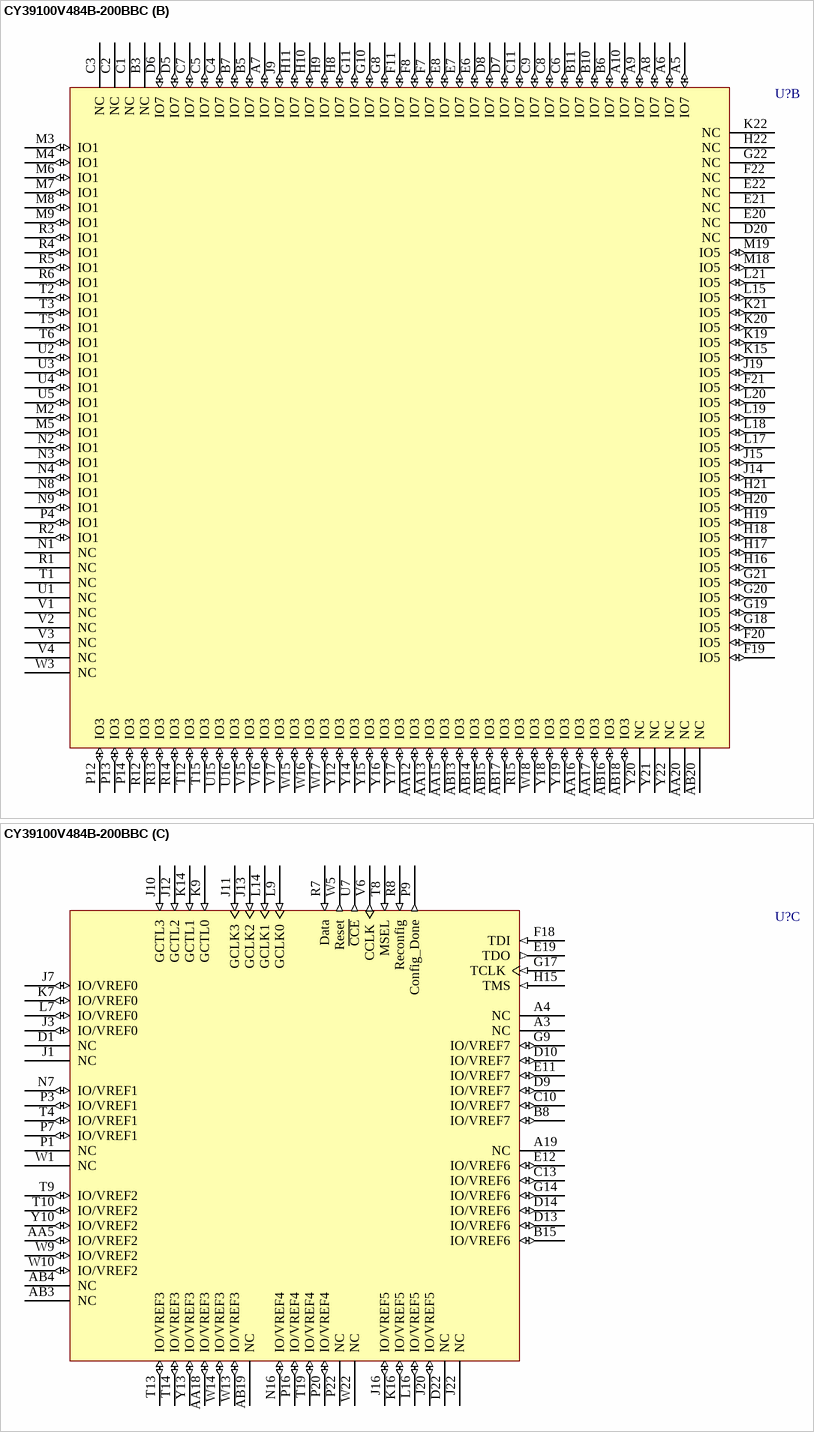
[diagram p44: symbol CY39100V484B-200BBC]

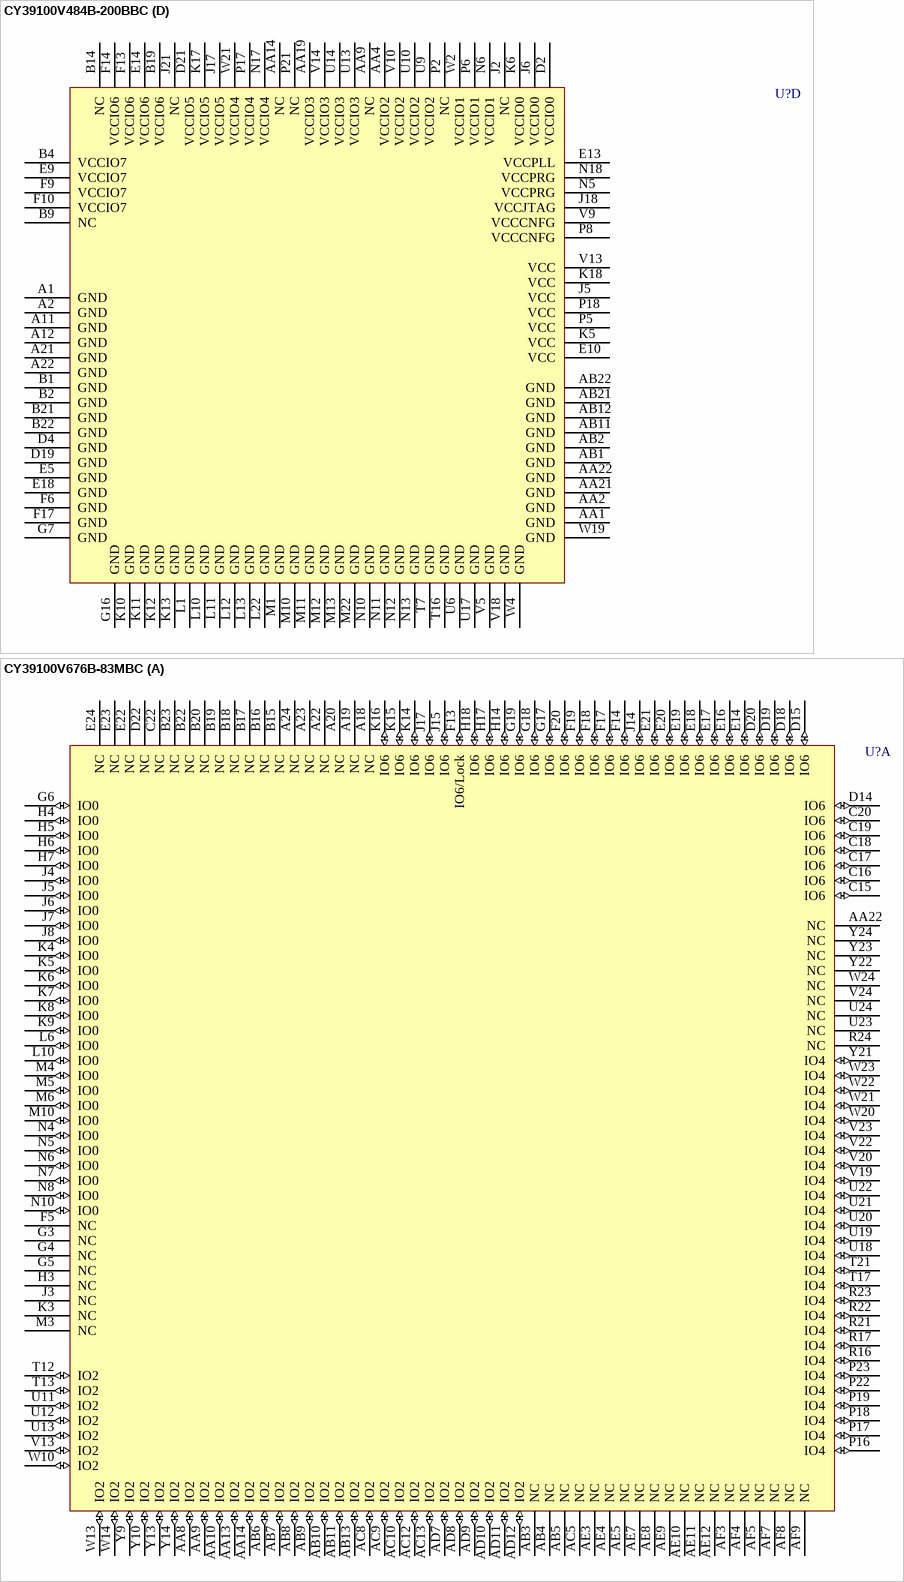
[diagram p45: symbols CY39100V484B-200BBC to CY39100V676B-83MBC]